# EAGLE library part FS5700DPL (library switch-e-switch)
SWITCH PUSHBUTTON DPDT 1A 9V
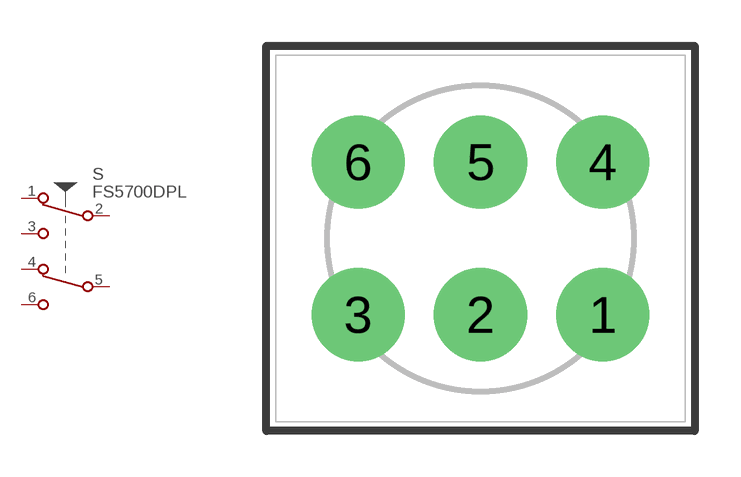
[diagram p14: symbol with the pads of FS5700DPL; footprint FS5700DPL]

Designator prefix S

## FS5700DPL  [FS5700DPL]
1  A-NC  pas
2  A-COM  pas
3  A-NO  pas
4  B-NC  pas
5  B-COM  pas
6  B-NO  pas

## Footprint FS5700DPL (pad centres in mm)
FOOTSWITCH
drill 1.422 pad 3.048: 1 4,-2.5; 2 0,-2.5; 3 -4,-2.5; 4 4,2.5; 5 0,2.5; 6 -4,2.5